# Altium schematic symbol library tlp291-4.SchLib: 1 symbol
Pins are listed as number, name and electrical type; pins without a type are passive.

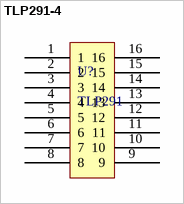
[diagram p0: symbol TLP291-4]

## TLP291-4
designator U?, comment TLP291
光耦隔离
pins: 1, 2, 3, 4, 5, 6, 7, 8, 9, 10, 11, 12, 13, 14, 15, 16